# Altium schematic symbol library 常用件.SCHLIB: 41 symbols
Pins are listed as number, name and electrical type; pins without a type are passive.

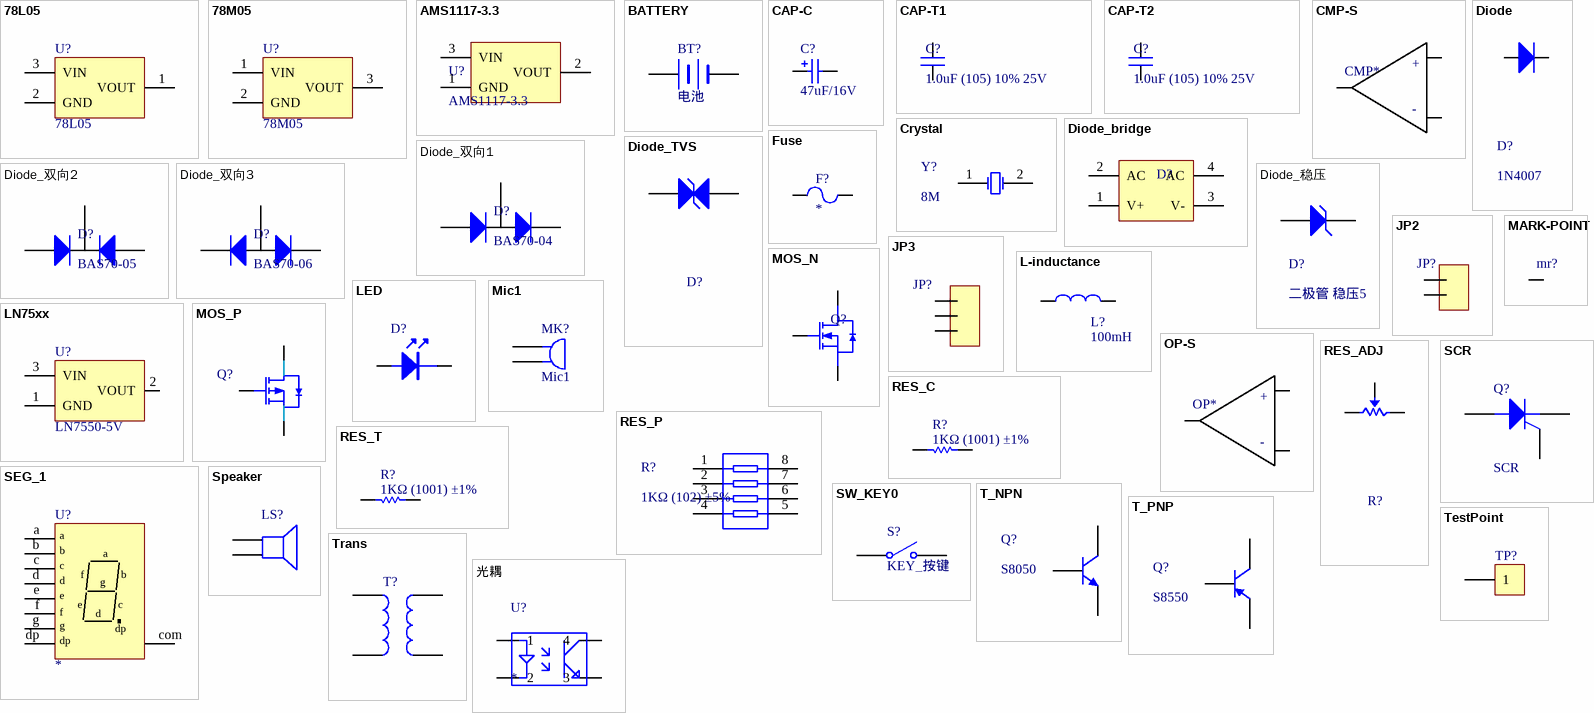
[diagram p0: symbols 78L05 to 光耦]

## 78L05
designator U?
电源
footprint LC-TO-92(TO-92-3)
footprint LC-TO-92_Forming2
footprint LC-SOT-89(SOT-89-3)
pins: 1 VOUT, 2 GND (power), 3 VIN (power)

## 78M05
designator U?
电源
footprint LC-TO-252-2
pins: 1 VIN (power), 2 GND (power), 3 VOUT

## AMS1117-3.3
designator U?
电源 LDO; ComponentLink1Description: 供应商链接; ComponentLink1URL: http://www.szlcsc.com/product/details_6652.html; Package: SOT-223; Supplier: LC; SuppliersPartNumber: C6186
footprint SOT-223
pins: 1 GND (power), 2 VOUT, 3 VIN (power)

## BATTERY
designator BT?, comment 电池
footprint CR2032 (电池 纽扣座)
pins: 1 +, 2 -

## CAP-C
designator C?, comment 47uF/16V
电容 插件; value: 10uF/25V
footprint RB.1/.25
footprint RB.1/.2
footprint C2.5*5*10
footprint C3.4*8*10
footprint RAD0.2
pins: 1, 2

## CAP-T1
designator C?, comment 1.0uF (105) 10% 25V
电容 贴片 无极性
footprint 0603_C
footprint 0805_C
footprint 1206_C
footprint RAD0.2
pins: 1, 2

## CAP-T2
designator C?, comment 1.0uF (105) 10% 25V
电容 贴片 有极性
footprint CASE-A_3216
footprint CASE-B_3528
footprint CASE-C_6032
footprint CASE-C_6032
pins: 1, 2

## CMP-S
designator CMP*  (value not drawn)
text: +; -

## Crystal
designator Y?, comment 8M
晶振; ComponentLink1Description: 供应商链接; ComponentLink1URL: http://www.szlcsc.com/product/details_33310.html; Package: SMD-3215_2P; Supplier: LC; SuppliersPartNumber: C32346
footprint LC-HC-49S
footprint LC-HC-49SMD
footprint LC-HC-AT26
footprint LC-HC-AT38
pins: 1 OSC1, 2 OSC2

## Diode
designator D?, comment 1N4007
二极管
footprint SMA(DO-214AC)_S5
footprint SMB(DO-214AA)_S5
footprint SMC(DO-214AB)_S5
footprint LL-34
footprint LC-SOD-123
pins: 1, 2 1
1 alternate drawing of the same symbol

## Diode_bridge
designator D?
二极管 桥堆; ComponentLink1Description: 供应商链接; ComponentLink1URL: http://www.szlcsc.com/product/details_2865.html; Package: MBS; Supplier: LC; SuppliersPartNumber: C2488
footprint MBS
footprint ABS
footprint LBS
pins: 1 V+, 2 AC, 3 V-, 4 AC

## Diode_TVS
designator D?
二极管 TVS
footprint SMA(DO-214AC)_S5
footprint SMB(DO-214AA)_S5
footprint SMC(DO-214AB)_S5
footprint LC-SOD-123
pins: 1 A, 2 K
1 alternate drawing of the same symbol

## Diode_双向1
designator D?, comment BAS70-04
二极管 IO
footprint LC-SOT-23(SOT-23-3)
pins: 1, 1, 1, 2 1, 2 1, 2, 3
1 alternate drawing of the same symbol

## Diode_双向2
designator D?, comment BAS70-05
二极管 II
footprint LC-SOT-23(SOT-23-3)
pins: 1, 1, 1, 2 1, 2 1, 2, 3
1 alternate drawing of the same symbol

## Diode_双向3
designator D?, comment BAS70-06
二极管 OO
footprint LC-SOT-23(SOT-23-3)
pins: 1, 1, 1, 2 1, 2 1, 2, 3
1 alternate drawing of the same symbol

## Diode_稳压
designator D?, comment 二极管 稳压5
二极管 稳压
footprint SMA(DO-214AC)_S5
footprint SMB(DO-214AA)_S5
footprint SMC(DO-214AB)_S5
footprint LL34 (二极管)
footprint LC-SOD-123
pins: 1 A, 2 K
1 alternate drawing of the same symbol

## Fuse
designator F?
保险丝
footprint 1206R
pins: 1, 2

## JP2
designator JP?
跳线帽
footprint 跳线帽1P
footprint SIP2-2.54
pins: 1, 2

## JP3
designator JP?
跳线帽
footprint 跳线帽2P
footprint SIP3-2.54
pins: 1  , 2  , 3  

## L-inductance
designator L?, comment 100mH
电感
footprint CD75
footprint CD43
footprint CD54
footprint SLF10145
footprint 0805_L
footprint 0603_L
footprint CD105
pins: 1, 2

## LED
designator D?
LED
footprint LC-0805_LED_S1
footprint LC-0603_LED_S1
footprint LED-3
pins: A 1, K 2

## LN75xx
designator U?, comment LN7550-5V
电源 南麟电子
footprint LC-SOT-23-3L (http://www.aosmd.com/res/packaging_information/SOT-23-3L.pdf)
pins: 1 GND (power), 2 VOUT, 3 VIN (power)

## MARK-POINT
designator mr?  (value not drawn)
MARK-POINT
footprint mark (测试点)
pins: 1 TP

## Mic1
designator MK?
话筒; Published: 24-Mar-1999; LatestRevisionDate: 17-Jul-2002; LatestRevisionNote: Re-released for DXP Platform.; PackageReference: PIN2; Publisher: Altium Limited
footprint PIN2 (Microphone; 2 Leads)
pins: 1, 2

## MOS_N
designator Q?  (value not drawn)
MOS(场效应管) N; ComponentLink1Description: 供应商链接; ComponentLink1URL: http://www.szlcsc.com/product/details_21629.html; Package: SOT-23; Supplier: LC; SuppliersPartNumber: C20917
footprint LC-SOT-23(SOT-23-3)
footprint TO-220_W1
footprint LC-TO-220F(TO-220IS) (=TO-220FP, Full-pak Package)
pins: 1 G, 2 S, 3 D

## MOS_P
designator Q?  (value not drawn)
MOS(场效应管) P; ComponentLink1Description: 供应商链接; ComponentLink1URL: http://www.szlcsc.com/product/details_15801.html; Package: SOT-23; Supplier: LC; SuppliersPartNumber: C15127
footprint TO-220_W1
footprint LC-TO-220F(TO-220IS) (=TO-220FP, Full-pak Package)
footprint LC-SOT-23(SOT-23-3)
pins: 1 G, 2 S, 3 D

## OP-S
designator OP*  (value not drawn)
text: +; -

## RES_ADJ
designator R?
电阻 可调
footprint R-adj3
footprint R-adj1
footprint R-adj2
pins: 1, 2, 3
1 alternate drawing of the same symbol

## RES_C
designator R?, comment 1KΩ (1001) ±1%
电阻 插件; Published: 8-Jun-2000; LatestRevisionDate: 17-Jul-2002; LatestRevisionNote: Re-released for DXP Platform.; PackageReference: AXIAL-0.5; Publisher: Altium Limited
footprint R-3W
footprint AXIAL0.3-1/8W (脚距6mm，直径1.5mm)
footprint AXIAL0.3-1/8W-V (脚距2mm，直径1.5mm)
pins: 1, 2
2 alternate drawings of the same symbol

## RES_P
designator R?, comment 1KΩ (102) ±5%
电阻 排阻; ComponentLink1Description: 供应商链接; ComponentLink1URL: http://www.szlcsc.com/product/details_20907.html; Package: 0603*4; Supplier: LC; SuppliersPartNumber: C20197
footprint LC-0603_Rx4
pins: 1, 2, 3, 4, 5, 6, 7, 8

## RES_T
designator R?, comment 1KΩ (1001) ±1%
电阻 贴片; Published: 8-Jun-2000; LatestRevisionDate: 17-Jul-2002; LatestRevisionNote: Re-released for DXP Platform.; PackageReference: AXIAL-0.5; Publisher: Altium Limited
footprint 1812_R
footprint 0805_R
footprint 0603_R
footprint 1206_R
footprint 2512_R
footprint 2010_R
pins: 1, 2
2 alternate drawings of the same symbol

## SCR
designator Q?
晶闸管; Published: 8-Jun-2000; LatestRevisionDate: 17-Jul-2002; LatestRevisionNote: Re-released for DXP Platform.; PackageReference: TO-220-AB; Publisher: Altium Limited; Code_JEDEC: TO-220-AB
footprint TO-220
simulation model SCR (Spice Subcircuit)
pins: 1 A, 2 G, 3 K

## SEG_1
designator U?
数码管 1com
footprint SM410806
pins: a, b, c, com, d, dp, e, f, g

## Speaker
designator LS?  (value not drawn)
蜂鸣器; Published: 24-Mar-1999; LatestRevisionDate: 17-Jul-2002; LatestRevisionNote: Re-released for DXP Platform.; PackageReference: PIN2; Publisher: Altium Limited
footprint 蜂鸣器 插件 12
footprint 蜂鸣器 贴片1
pins: 1, 2

## SW_KEY0
designator S?, comment KEY_按键
开关 1P-1; Published: 24-Mar-1999; LatestRevisionDate: 17-Jul-2002; LatestRevisionNote: Re-released for DXP Platform.; PackageReference: SPST-2; Publisher: Altium Limited; PackageDescription: Switch; 2 Leads
footprint sw-c4
footprint SW6x6_C
footprint SW6x6_T
footprint SW-c-90
footprint SW-c12x12
footprint SW-t1
pins: 1 COMMON, 2 NO

## T_NPN
designator Q?, comment S8050
三极管 NPN; ComponentLink1Description: 供应商链接; ComponentLink1URL: http://www.szlcsc.com/product/details_2507.html; Package: SOT-23; Supplier: LC; SuppliersPartNumber: C2150
footprint LC-SOT-23(SOT-23-3)
pins: 1 B, 2 E, 3 C

## T_PNP
designator Q?, comment S8550
三极管 PNP; ComponentLink1Description: 供应商链接; ComponentLink1URL: http://www.szlcsc.com/product/details_9037.html; Package: SOT-23; Supplier: LC; SuppliersPartNumber: C8542
footprint LC-SOT-23(SOT-23-3)
pins: 1 B, 2 E, 3 C

## TestPoint
designator TP?
测试点
footprint TP1.0 (测试点)
footprint TP0.5 (测试点)
footprint TPK1.0 (测试孔)
footprint TPK1.5 (测试孔)
footprint TP1.5 (测试点)
footprint 固定孔3mm (固定孔)
pins: 1

## Trans
designator T?
Transformer; Published: 24-Mar-1999; LatestRevisionDate: 08-Jul-2005; LatestRevisionNote: Mech Layer 1 removed.; PackageReference: TRANS; Publisher: Altium Limited; PackageDescription: Transformer; 4 Leads
footprint TRANS (Transformer; 4 Leads)
simulation model TRANSFORMER (Transformer)
pins: 1, 2, 3, 4

## 光耦
designator U?
光耦
footprint SOP-4_P1.27
footprint SOP-4_P2.54
footprint SMD-4
pins: 1, 2, 3, 4

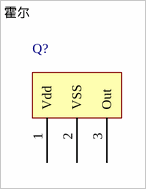
[diagram p1: symbol 霍尔]

## 霍尔
designator Q?
传感器 磁性
footprint LC-SOT-23-3L (http://www.aosmd.com/res/packaging_information/SOT-23-3L.pdf)
footprint TO-92L - W
footprint TO-92L
pins: 1 Vdd, 2 VSS, 3 Out